# Altium schematic symbol library Schlib1.SchLib: 23 symbols
Pins are listed as number, name and electrical type; pins without a type are passive.

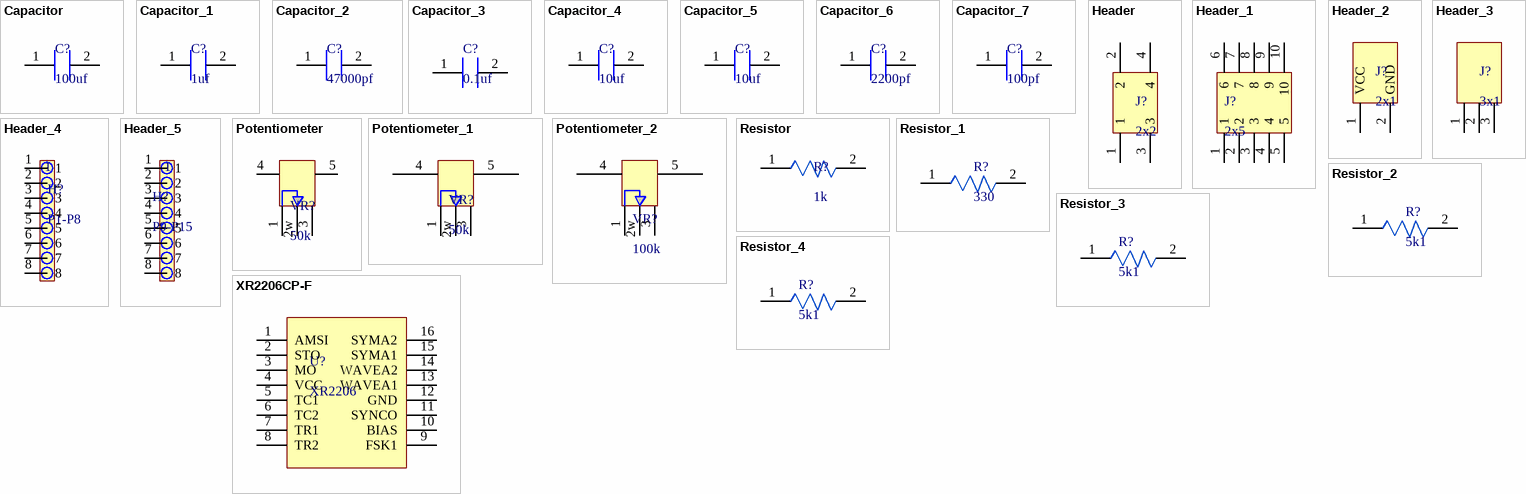
[diagram p0: symbols Capacitor to XR2206CP-F]

## Capacitor
designator C?, comment 100uf
Manufacturer: United Chemi-Con; Manufacturer Part Number: KTD101B107M99A0B00; Value: 100µF; Dielectric Material: Ceramic; Lead/Base Style: Straight; Tolerance: 20%; Voltage Rating: 100V; Supplier: DigiKey; Supplier Part Number: 565-KTD101B107M99A0B00-ND; RoHS: Compliant; Category: Ceramic Capacitors; Stock: 1030; Pricing: 1=30.55, 10=24.126, 50=22.6442, 100=21.9445 (USD); Case/Package: Radial; China RoHS: Compliant; Contact Plating: Tin; Height: 20mm; Height - Seated (Max): 20.0152mm; Lead Pitch: 24.9936mm; Length: 28.5mm; Lifecycle Status: Production; Max Operating Temperature: 125°C; Min Operating Temperature: -55°C; Mounting Technology: Through Hole; Number of Terminals: 2; REACH SVHC: Yes; Terminal Pitch: 25mm; Voltage Rating (DC): 100V; Width: 9mm; ComponentLink1URL: https://datasheet.octopart.com:443/KTD101B107M99A0B00-Nippon-Chemicon-datasheet-182100469.pdf?src-supplier=IHS; ComponentLink1Description: https://datasheet.octopart.com:443/KTD101B107M99A0B00-Nippon-Chemicon-datasheet-182100469.pdf?src-supplier=IHS; ComponentLink2URL: https://datasheet.octopart.com:443/KTD101B107M99A0B00-United-Chemi-Con-datasheet-154730662.pdf?src-supplier=Electro+Sonic; ComponentLink2Description: https://datasheet.octopart.com:443/KTD101B107M99A0B00-United-Chemi-Con-datasheet-154730662.pdf?src-supplier=Electro+Sonic
footprint PCBComponent_1
pins: 1, 2

## Capacitor_1
designator C?, comment 1uf
Manufacturer: United Chemi-Con; Manufacturer Part Number: KTD101B107M99A0B00; Value: 100µF; Dielectric Material: Ceramic; Lead/Base Style: Straight; Tolerance: 20%; Voltage Rating: 100V; Supplier: DigiKey; Supplier Part Number: 565-KTD101B107M99A0B00-ND; RoHS: Compliant; Category: Ceramic Capacitors; Stock: 1030; Pricing: 1=30.55, 10=24.126, 50=22.6442, 100=21.9445 (USD); Case/Package: Radial; China RoHS: Compliant; Contact Plating: Tin; Height: 20mm; Height - Seated (Max): 20.0152mm; Lead Pitch: 24.9936mm; Length: 28.5mm; Lifecycle Status: Production; Max Operating Temperature: 125°C; Min Operating Temperature: -55°C; Mounting Technology: Through Hole; Number of Terminals: 2; REACH SVHC: Yes; Terminal Pitch: 25mm; Voltage Rating (DC): 100V; Width: 9mm; ComponentLink1URL: https://datasheet.octopart.com:443/KTD101B107M99A0B00-Nippon-Chemicon-datasheet-182100469.pdf?src-supplier=IHS; ComponentLink1Description: https://datasheet.octopart.com:443/KTD101B107M99A0B00-Nippon-Chemicon-datasheet-182100469.pdf?src-supplier=IHS; ComponentLink2URL: https://datasheet.octopart.com:443/KTD101B107M99A0B00-United-Chemi-Con-datasheet-154730662.pdf?src-supplier=Electro+Sonic; ComponentLink2Description: https://datasheet.octopart.com:443/KTD101B107M99A0B00-United-Chemi-Con-datasheet-154730662.pdf?src-supplier=Electro+Sonic
footprint PCBComponent_1
pins: 1, 2

## Capacitor_2
designator C?, comment 47000pf
Manufacturer: United Chemi-Con; Manufacturer Part Number: KTD101B107M99A0B00; Value: 100µF; Dielectric Material: Ceramic; Lead/Base Style: Straight; Tolerance: 20%; Voltage Rating: 100V; Supplier: DigiKey; Supplier Part Number: 565-KTD101B107M99A0B00-ND; RoHS: Compliant; Category: Ceramic Capacitors; Stock: 1030; Pricing: 1=30.55, 10=24.126, 50=22.6442, 100=21.9445 (USD); Case/Package: Radial; China RoHS: Compliant; Contact Plating: Tin; Height: 20mm; Height - Seated (Max): 20.0152mm; Lead Pitch: 24.9936mm; Length: 28.5mm; Lifecycle Status: Production; Max Operating Temperature: 125°C; Min Operating Temperature: -55°C; Mounting Technology: Through Hole; Number of Terminals: 2; REACH SVHC: Yes; Terminal Pitch: 25mm; Voltage Rating (DC): 100V; Width: 9mm; ComponentLink1URL: https://datasheet.octopart.com:443/KTD101B107M99A0B00-Nippon-Chemicon-datasheet-182100469.pdf?src-supplier=IHS; ComponentLink1Description: https://datasheet.octopart.com:443/KTD101B107M99A0B00-Nippon-Chemicon-datasheet-182100469.pdf?src-supplier=IHS; ComponentLink2URL: https://datasheet.octopart.com:443/KTD101B107M99A0B00-United-Chemi-Con-datasheet-154730662.pdf?src-supplier=Electro+Sonic; ComponentLink2Description: https://datasheet.octopart.com:443/KTD101B107M99A0B00-United-Chemi-Con-datasheet-154730662.pdf?src-supplier=Electro+Sonic
footprint PCBComponent_1
pins: 1, 2

## Capacitor_3
designator C?, comment 0.1uf
Manufacturer: United Chemi-Con; Manufacturer Part Number: KTD101B107M99A0B00; Value: 100µF; Dielectric Material: Ceramic; Lead/Base Style: Straight; Tolerance: 20%; Voltage Rating: 100V; Supplier: DigiKey; Supplier Part Number: 565-KTD101B107M99A0B00-ND; RoHS: Compliant; Category: Ceramic Capacitors; Stock: 1030; Pricing: 1=30.55, 10=24.126, 50=22.6442, 100=21.9445 (USD); Case/Package: Radial; China RoHS: Compliant; Contact Plating: Tin; Height: 20mm; Height - Seated (Max): 20.0152mm; Lead Pitch: 24.9936mm; Length: 28.5mm; Lifecycle Status: Production; Max Operating Temperature: 125°C; Min Operating Temperature: -55°C; Mounting Technology: Through Hole; Number of Terminals: 2; REACH SVHC: Yes; Terminal Pitch: 25mm; Voltage Rating (DC): 100V; Width: 9mm; ComponentLink1URL: https://datasheet.octopart.com:443/KTD101B107M99A0B00-Nippon-Chemicon-datasheet-182100469.pdf?src-supplier=IHS; ComponentLink1Description: https://datasheet.octopart.com:443/KTD101B107M99A0B00-Nippon-Chemicon-datasheet-182100469.pdf?src-supplier=IHS; ComponentLink2URL: https://datasheet.octopart.com:443/KTD101B107M99A0B00-United-Chemi-Con-datasheet-154730662.pdf?src-supplier=Electro+Sonic; ComponentLink2Description: https://datasheet.octopart.com:443/KTD101B107M99A0B00-United-Chemi-Con-datasheet-154730662.pdf?src-supplier=Electro+Sonic
footprint PCBComponent_1
pins: 1, 2

## Capacitor_4
designator C?, comment 10uf
Manufacturer: United Chemi-Con; Manufacturer Part Number: KTD101B107M99A0B00; Value: 100µF; Dielectric Material: Ceramic; Lead/Base Style: Straight; Tolerance: 20%; Voltage Rating: 100V; Supplier: DigiKey; Supplier Part Number: 565-KTD101B107M99A0B00-ND; RoHS: Compliant; Category: Ceramic Capacitors; Stock: 1030; Pricing: 1=30.55, 10=24.126, 50=22.6442, 100=21.9445 (USD); Case/Package: Radial; China RoHS: Compliant; Contact Plating: Tin; Height: 20mm; Height - Seated (Max): 20.0152mm; Lead Pitch: 24.9936mm; Length: 28.5mm; Lifecycle Status: Production; Max Operating Temperature: 125°C; Min Operating Temperature: -55°C; Mounting Technology: Through Hole; Number of Terminals: 2; REACH SVHC: Yes; Terminal Pitch: 25mm; Voltage Rating (DC): 100V; Width: 9mm; ComponentLink1URL: https://datasheet.octopart.com:443/KTD101B107M99A0B00-Nippon-Chemicon-datasheet-182100469.pdf?src-supplier=IHS; ComponentLink1Description: https://datasheet.octopart.com:443/KTD101B107M99A0B00-Nippon-Chemicon-datasheet-182100469.pdf?src-supplier=IHS; ComponentLink2URL: https://datasheet.octopart.com:443/KTD101B107M99A0B00-United-Chemi-Con-datasheet-154730662.pdf?src-supplier=Electro+Sonic; ComponentLink2Description: https://datasheet.octopart.com:443/KTD101B107M99A0B00-United-Chemi-Con-datasheet-154730662.pdf?src-supplier=Electro+Sonic
footprint PCBComponent_1
pins: 1, 2

## Capacitor_5
designator C?, comment 10uf
Manufacturer: United Chemi-Con; Manufacturer Part Number: KTD101B107M99A0B00; Value: 100µF; Dielectric Material: Ceramic; Lead/Base Style: Straight; Tolerance: 20%; Voltage Rating: 100V; Supplier: DigiKey; Supplier Part Number: 565-KTD101B107M99A0B00-ND; RoHS: Compliant; Category: Ceramic Capacitors; Stock: 1030; Pricing: 1=30.55, 10=24.126, 50=22.6442, 100=21.9445 (USD); Case/Package: Radial; China RoHS: Compliant; Contact Plating: Tin; Height: 20mm; Height - Seated (Max): 20.0152mm; Lead Pitch: 24.9936mm; Length: 28.5mm; Lifecycle Status: Production; Max Operating Temperature: 125°C; Min Operating Temperature: -55°C; Mounting Technology: Through Hole; Number of Terminals: 2; REACH SVHC: Yes; Terminal Pitch: 25mm; Voltage Rating (DC): 100V; Width: 9mm; ComponentLink1URL: https://datasheet.octopart.com:443/KTD101B107M99A0B00-Nippon-Chemicon-datasheet-182100469.pdf?src-supplier=IHS; ComponentLink1Description: https://datasheet.octopart.com:443/KTD101B107M99A0B00-Nippon-Chemicon-datasheet-182100469.pdf?src-supplier=IHS; ComponentLink2URL: https://datasheet.octopart.com:443/KTD101B107M99A0B00-United-Chemi-Con-datasheet-154730662.pdf?src-supplier=Electro+Sonic; ComponentLink2Description: https://datasheet.octopart.com:443/KTD101B107M99A0B00-United-Chemi-Con-datasheet-154730662.pdf?src-supplier=Electro+Sonic
footprint PCBComponent_1
pins: 1, 2

## Capacitor_6
designator C?, comment 2200pf
Manufacturer: United Chemi-Con; Manufacturer Part Number: KTD101B107M99A0B00; Value: 100µF; Dielectric Material: Ceramic; Lead/Base Style: Straight; Tolerance: 20%; Voltage Rating: 100V; Supplier: DigiKey; Supplier Part Number: 565-KTD101B107M99A0B00-ND; RoHS: Compliant; Category: Ceramic Capacitors; Stock: 1030; Pricing: 1=30.55, 10=24.126, 50=22.6442, 100=21.9445 (USD); Case/Package: Radial; China RoHS: Compliant; Contact Plating: Tin; Height: 20mm; Height - Seated (Max): 20.0152mm; Lead Pitch: 24.9936mm; Length: 28.5mm; Lifecycle Status: Production; Max Operating Temperature: 125°C; Min Operating Temperature: -55°C; Mounting Technology: Through Hole; Number of Terminals: 2; REACH SVHC: Yes; Terminal Pitch: 25mm; Voltage Rating (DC): 100V; Width: 9mm; ComponentLink1URL: https://datasheet.octopart.com:443/KTD101B107M99A0B00-Nippon-Chemicon-datasheet-182100469.pdf?src-supplier=IHS; ComponentLink1Description: https://datasheet.octopart.com:443/KTD101B107M99A0B00-Nippon-Chemicon-datasheet-182100469.pdf?src-supplier=IHS; ComponentLink2URL: https://datasheet.octopart.com:443/KTD101B107M99A0B00-United-Chemi-Con-datasheet-154730662.pdf?src-supplier=Electro+Sonic; ComponentLink2Description: https://datasheet.octopart.com:443/KTD101B107M99A0B00-United-Chemi-Con-datasheet-154730662.pdf?src-supplier=Electro+Sonic
footprint PCBComponent_1
pins: 1, 2

## Capacitor_7
designator C?, comment 100pf
Manufacturer: United Chemi-Con; Manufacturer Part Number: KTD101B107M99A0B00; Value: 100µF; Dielectric Material: Ceramic; Lead/Base Style: Straight; Tolerance: 20%; Voltage Rating: 100V; Supplier: DigiKey; Supplier Part Number: 565-KTD101B107M99A0B00-ND; RoHS: Compliant; Category: Ceramic Capacitors; Stock: 1030; Pricing: 1=30.55, 10=24.126, 50=22.6442, 100=21.9445 (USD); Case/Package: Radial; China RoHS: Compliant; Contact Plating: Tin; Height: 20mm; Height - Seated (Max): 20.0152mm; Lead Pitch: 24.9936mm; Length: 28.5mm; Lifecycle Status: Production; Max Operating Temperature: 125°C; Min Operating Temperature: -55°C; Mounting Technology: Through Hole; Number of Terminals: 2; REACH SVHC: Yes; Terminal Pitch: 25mm; Voltage Rating (DC): 100V; Width: 9mm; ComponentLink1URL: https://datasheet.octopart.com:443/KTD101B107M99A0B00-Nippon-Chemicon-datasheet-182100469.pdf?src-supplier=IHS; ComponentLink1Description: https://datasheet.octopart.com:443/KTD101B107M99A0B00-Nippon-Chemicon-datasheet-182100469.pdf?src-supplier=IHS; ComponentLink2URL: https://datasheet.octopart.com:443/KTD101B107M99A0B00-United-Chemi-Con-datasheet-154730662.pdf?src-supplier=Electro+Sonic; ComponentLink2Description: https://datasheet.octopart.com:443/KTD101B107M99A0B00-United-Chemi-Con-datasheet-154730662.pdf?src-supplier=Electro+Sonic
footprint PCBComponent_1
pins: 1, 2

## Header
designator J?, comment 2x2
Manufacturer: Sullins; Manufacturer Part Number: PPPC022LFBN-RC; Connector Type: Header, Socket; Current Rating: 3A; Dielectric Material: Polyester; Number of Positions: 4; Pitch: 2.54mm; Supplier: DigiKey; Supplier Part Number: S7105-ND; RoHS: Compliant; Category: Card Edge Connectors; Stock: 8090; Pricing: 1=0.46, 10=0.394, 100=0.3349, 500=0.29888, 1000=0.28461, 5000=0.25405, 10000=0.24193 (USD); Color: Black; Contact Gender: Female; Contact Material: Bronze; Contact Plating: Gold; Height: 8.5mm; Housing Material: Plastic; Lead Free: Lead Free; Length: 5.58mm; Lifecycle Status: Production; Mounting Technology: Through Hole; Pins: 4; Number of Rows: 2; Packaging: Bulk; REACH SVHC: Yes; Row Spacing: 2.54mm; Terminal Pitch: 2.54mm; Termination: Solder; Width: 5mm; ComponentLink1URL: https://datasheet.octopart.com:443/PPPC022LFBN-RC-Sullins-datasheet-138810743.pdf?src-supplier=IHS; ComponentLink1Description: https://datasheet.octopart.com:443/PPPC022LFBN-RC-Sullins-datasheet-138810743.pdf?src-supplier=IHS; ComponentLink2URL: https://datasheet.octopart.com:443/PPPC022LFBN-RC-Sullins-datasheet-41308905.pdf?src-supplier=Future+Electronics; ComponentLink2Description: https://datasheet.octopart.com:443/PPPC022LFBN-RC-Sullins-datasheet-41308905.pdf?src-supplier=Future+Electronics; ComponentLink3URL: https://datasheet.octopart.com:443/PPPC022LFBN-RC-Sullins-datasheet-12511165.pdf?src-supplier=Future+Electronics; ComponentLink3Description: https://datasheet.octopart.com:443/PPPC022LFBN-RC-Sullins-datasheet-12511165.pdf?src-supplier=Future+Electronics; ComponentLink4URL: https://datasheet.octopart.com:443/PPPC022LFBN-RC-Sullins-datasheet-12463.pdf?src-supplier=DigiKey; ComponentLink4Description: https://datasheet.octopart.com:443/PPPC022LFBN-RC-Sullins-datasheet-12463.pdf?src-supplier=DigiKey
footprint PCBComponent_1 - duplicate6
pins: 1, 2, 3, 4

## Header_1
designator J?, comment 2x5
Manufacturer: Sullins; Manufacturer Part Number: PPPC022LFBN-RC; Connector Type: Header, Socket; Current Rating: 3A; Dielectric Material: Polyester; Number of Positions: 4; Pitch: 2.54mm; Supplier: DigiKey; Supplier Part Number: S7105-ND; RoHS: Compliant; Category: Card Edge Connectors; Stock: 8090; Pricing: 1=0.46, 10=0.394, 100=0.3349, 500=0.29888, 1000=0.28461, 5000=0.25405, 10000=0.24193 (USD); Color: Black; Contact Gender: Female; Contact Material: Bronze; Contact Plating: Gold; Height: 8.5mm; Housing Material: Plastic; Lead Free: Lead Free; Length: 5.58mm; Lifecycle Status: Production; Mounting Technology: Through Hole; Pins: 4; Number of Rows: 2; Packaging: Bulk; REACH SVHC: Yes; Row Spacing: 2.54mm; Terminal Pitch: 2.54mm; Termination: Solder; Width: 5mm; ComponentLink1URL: https://datasheet.octopart.com:443/PPPC022LFBN-RC-Sullins-datasheet-138810743.pdf?src-supplier=IHS; ComponentLink1Description: https://datasheet.octopart.com:443/PPPC022LFBN-RC-Sullins-datasheet-138810743.pdf?src-supplier=IHS; ComponentLink2URL: https://datasheet.octopart.com:443/PPPC022LFBN-RC-Sullins-datasheet-41308905.pdf?src-supplier=Future+Electronics; ComponentLink2Description: https://datasheet.octopart.com:443/PPPC022LFBN-RC-Sullins-datasheet-41308905.pdf?src-supplier=Future+Electronics; ComponentLink3URL: https://datasheet.octopart.com:443/PPPC022LFBN-RC-Sullins-datasheet-12511165.pdf?src-supplier=Future+Electronics; ComponentLink3Description: https://datasheet.octopart.com:443/PPPC022LFBN-RC-Sullins-datasheet-12511165.pdf?src-supplier=Future+Electronics; ComponentLink4URL: https://datasheet.octopart.com:443/PPPC022LFBN-RC-Sullins-datasheet-12463.pdf?src-supplier=DigiKey; ComponentLink4Description: https://datasheet.octopart.com:443/PPPC022LFBN-RC-Sullins-datasheet-12463.pdf?src-supplier=DigiKey
footprint PCBComponent_1 - duplicate5
pins: 1, 2, 3, 4, 5, 6, 7, 8, 9, 10

## Header_2
designator J?, comment 2x1
Manufacturer: Sullins; Manufacturer Part Number: PPPC022LFBN-RC; Connector Type: Header, Socket; Current Rating: 3A; Dielectric Material: Polyester; Number of Positions: 4; Pitch: 2.54mm; Supplier: DigiKey; Supplier Part Number: S7105-ND; RoHS: Compliant; Category: Card Edge Connectors; Stock: 8090; Pricing: 1=0.46, 10=0.394, 100=0.3349, 500=0.29888, 1000=0.28461, 5000=0.25405, 10000=0.24193 (USD); Color: Black; Contact Gender: Female; Contact Material: Bronze; Contact Plating: Gold; Height: 8.5mm; Housing Material: Plastic; Lead Free: Lead Free; Length: 5.58mm; Lifecycle Status: Production; Mounting Technology: Through Hole; Pins: 4; Number of Rows: 2; Packaging: Bulk; REACH SVHC: Yes; Row Spacing: 2.54mm; Terminal Pitch: 2.54mm; Termination: Solder; Width: 5mm; ComponentLink1URL: https://datasheet.octopart.com:443/PPPC022LFBN-RC-Sullins-datasheet-138810743.pdf?src-supplier=IHS; ComponentLink1Description: https://datasheet.octopart.com:443/PPPC022LFBN-RC-Sullins-datasheet-138810743.pdf?src-supplier=IHS; ComponentLink2URL: https://datasheet.octopart.com:443/PPPC022LFBN-RC-Sullins-datasheet-41308905.pdf?src-supplier=Future+Electronics; ComponentLink2Description: https://datasheet.octopart.com:443/PPPC022LFBN-RC-Sullins-datasheet-41308905.pdf?src-supplier=Future+Electronics; ComponentLink3URL: https://datasheet.octopart.com:443/PPPC022LFBN-RC-Sullins-datasheet-12511165.pdf?src-supplier=Future+Electronics; ComponentLink3Description: https://datasheet.octopart.com:443/PPPC022LFBN-RC-Sullins-datasheet-12511165.pdf?src-supplier=Future+Electronics; ComponentLink4URL: https://datasheet.octopart.com:443/PPPC022LFBN-RC-Sullins-datasheet-12463.pdf?src-supplier=DigiKey; ComponentLink4Description: https://datasheet.octopart.com:443/PPPC022LFBN-RC-Sullins-datasheet-12463.pdf?src-supplier=DigiKey
footprint PCBComponent_1 - duplicate4
pins: 1 VCC (power), 2 GND (power)

## Header_3
designator J?, comment 3x1
Manufacturer: Sullins; Manufacturer Part Number: PPPC022LFBN-RC; Connector Type: Header, Socket; Current Rating: 3A; Dielectric Material: Polyester; Number of Positions: 4; Pitch: 2.54mm; Supplier: DigiKey; Supplier Part Number: S7105-ND; RoHS: Compliant; Category: Card Edge Connectors; Stock: 8090; Pricing: 1=0.46, 10=0.394, 100=0.3349, 500=0.29888, 1000=0.28461, 5000=0.25405, 10000=0.24193 (USD); Color: Black; Contact Gender: Female; Contact Material: Bronze; Contact Plating: Gold; Height: 8.5mm; Housing Material: Plastic; Lead Free: Lead Free; Length: 5.58mm; Lifecycle Status: Production; Mounting Technology: Through Hole; Pins: 4; Number of Rows: 2; Packaging: Bulk; REACH SVHC: Yes; Row Spacing: 2.54mm; Terminal Pitch: 2.54mm; Termination: Solder; Width: 5mm; ComponentLink1URL: https://datasheet.octopart.com:443/PPPC022LFBN-RC-Sullins-datasheet-138810743.pdf?src-supplier=IHS; ComponentLink1Description: https://datasheet.octopart.com:443/PPPC022LFBN-RC-Sullins-datasheet-138810743.pdf?src-supplier=IHS; ComponentLink2URL: https://datasheet.octopart.com:443/PPPC022LFBN-RC-Sullins-datasheet-41308905.pdf?src-supplier=Future+Electronics; ComponentLink2Description: https://datasheet.octopart.com:443/PPPC022LFBN-RC-Sullins-datasheet-41308905.pdf?src-supplier=Future+Electronics; ComponentLink3URL: https://datasheet.octopart.com:443/PPPC022LFBN-RC-Sullins-datasheet-12511165.pdf?src-supplier=Future+Electronics; ComponentLink3Description: https://datasheet.octopart.com:443/PPPC022LFBN-RC-Sullins-datasheet-12511165.pdf?src-supplier=Future+Electronics; ComponentLink4URL: https://datasheet.octopart.com:443/PPPC022LFBN-RC-Sullins-datasheet-12463.pdf?src-supplier=DigiKey; ComponentLink4Description: https://datasheet.octopart.com:443/PPPC022LFBN-RC-Sullins-datasheet-12463.pdf?src-supplier=DigiKey
footprint PCBComponent_1 - duplicate7
pins: 1 SIN/TRI, 2 SQU, 3 GND

## Header_4
designator H?, comment P1-P8
Manufacturer: Sullins; Manufacturer Part Number: PPTC081LFBN-RC; Connector Type: Header, Socket; Current Rating: 3A; Dielectric Material: Polyester; Number of Positions: 8; Pitch: 2.54mm; Plating Thickness: 2.54µm; Supplier: DigiKey; Supplier Part Number: S7006-ND; RoHS: Compliant; Category: Card Edge Connectors; Stock: 36900; Pricing: 1=0.51, 10=0.435, 400=0.33535, 800=0.31933, 1200=0.31031, 5200=0.2798, 10000=0.26719 (USD); Color: Black; Contact Gender: Female; Contact Material: Bronze; Contact Plating: Tin; Height: 8.5mm; Housing Material: Plastic; Lead Free: Lead Free; Length: 20.8mm; Lifecycle Status: Production; Max Operating Temperature: 105°C; Min Operating Temperature: -40°C; Mounting Technology: Through Hole; Pins: 8; Number of Rows: 1; Packaging: Bulk; REACH SVHC: Yes; Terminal Pitch: 2.54mm; Termination: Solder; Width: 2.5mm; ComponentLink1URL: https://datasheet.octopart.com:443/PPTC081LFBN-RC-Sullins-datasheet-138810743.pdf?src-supplier=IHS; ComponentLink1Description: https://datasheet.octopart.com:443/PPTC081LFBN-RC-Sullins-datasheet-138810743.pdf?src-supplier=IHS; ComponentLink2URL: https://datasheet.octopart.com:443/PPTC081LFBN-RC-Sullins-datasheet-47864048.pdf?src-supplier=Upverter; ComponentLink2Description: https://datasheet.octopart.com:443/PPTC081LFBN-RC-Sullins-datasheet-47864048.pdf?src-supplier=Upverter; ComponentLink3URL: https://datasheet.octopart.com:443/PPTC081LFBN-RC-Sullins-datasheet-41308905.pdf?src-supplier=Future+Electronics; ComponentLink3Description: https://datasheet.octopart.com:443/PPTC081LFBN-RC-Sullins-datasheet-41308905.pdf?src-supplier=Future+Electronics; ComponentLink4URL: https://datasheet.octopart.com:443/PPTC081LFBN-RC-Sullins-datasheet-12511165.pdf?src-supplier=Future+Electronics; ComponentLink4Description: https://datasheet.octopart.com:443/PPTC081LFBN-RC-Sullins-datasheet-12511165.pdf?src-supplier=Future+Electronics
footprint PCBComponent_1 - duplicate1
pins: 1, 2, 3, 4, 5, 6, 7, 8

## Header_5
designator H?, comment P9-P15
Manufacturer: Sullins; Manufacturer Part Number: PPPC022LFBN-RC; Connector Type: Header, Socket; Current Rating: 3A; Dielectric Material: Polyester; Number of Positions: 4; Pitch: 2.54mm; Supplier: DigiKey; Supplier Part Number: S7105-ND; RoHS: Compliant; Category: Card Edge Connectors; Stock: 8090; Pricing: 1=0.46, 10=0.394, 100=0.3349, 500=0.29888, 1000=0.28461, 5000=0.25405, 10000=0.24193 (USD); Color: Black; Contact Gender: Female; Contact Material: Bronze; Contact Plating: Gold; Height: 8.5mm; Housing Material: Plastic; Lead Free: Lead Free; Length: 5.58mm; Lifecycle Status: Production; Mounting Technology: Through Hole; Pins: 4; Number of Rows: 2; Packaging: Bulk; REACH SVHC: Yes; Row Spacing: 2.54mm; Terminal Pitch: 2.54mm; Termination: Solder; Width: 5mm; ComponentLink1URL: https://datasheet.octopart.com:443/PPPC022LFBN-RC-Sullins-datasheet-138810743.pdf?src-supplier=IHS; ComponentLink1Description: https://datasheet.octopart.com:443/PPPC022LFBN-RC-Sullins-datasheet-138810743.pdf?src-supplier=IHS; ComponentLink2URL: https://datasheet.octopart.com:443/PPPC022LFBN-RC-Sullins-datasheet-41308905.pdf?src-supplier=Future+Electronics; ComponentLink2Description: https://datasheet.octopart.com:443/PPPC022LFBN-RC-Sullins-datasheet-41308905.pdf?src-supplier=Future+Electronics; ComponentLink3URL: https://datasheet.octopart.com:443/PPPC022LFBN-RC-Sullins-datasheet-12511165.pdf?src-supplier=Future+Electronics; ComponentLink3Description: https://datasheet.octopart.com:443/PPPC022LFBN-RC-Sullins-datasheet-12511165.pdf?src-supplier=Future+Electronics; ComponentLink4URL: https://datasheet.octopart.com:443/PPPC022LFBN-RC-Sullins-datasheet-12463.pdf?src-supplier=DigiKey; ComponentLink4Description: https://datasheet.octopart.com:443/PPPC022LFBN-RC-Sullins-datasheet-12463.pdf?src-supplier=DigiKey
footprint PCBComponent_1 - duplicate1
pins: 1, 2, 3, 4, 5, 6, 7, 8

## Potentiometer
designator VR?, comment 50k
Manufacturer: Bourns; Manufacturer Part Number: PV36W503C01B00; Lead Diameter: 510µm; Lead Length: 6.4mm; Max Power Dissipation: 500mW; Number of Turns: 25; Value: 50kΩ; Temperature Coefficient: 100ppm/°C; Tolerance: 10%; Supplier: DigiKey; Supplier Part Number: 118-PV36W503C01B00-ND; RoHS: Compliant; Category: Variable Resistors and Potentiometers; Stock: 4549; Pricing: 1=1.53, 10=1.291, 25=1.2048, 50=1.1432, 100=1.0844, 300=0.99703, 500=0.95864, 1000=0.90877, 5000=0.80229 (USD); Composition: Cermet; Contact Plating: Tin; Height: 10.03mm; Lifecycle Status: Production; Max Operating Temperature: 125°C; Min Operating Temperature: -55°C; Mounting Technology: Through Hole; Number of Terminals: 3; Power Dissipation: 500mW; REACH SVHC: No; Schedule B: 8533400080, 8533400080|8533400080|8533400080|8533400080|8533400080; Termination: PC Pins; Width: 4.83mm; ComponentLink1URL: https://datasheet.octopart.com:443/PV36W503C01B00-Bourns-datasheet-182141976.pdf?src-supplier=JRH+Electronics; ComponentLink1Description: https://datasheet.octopart.com:443/PV36W503C01B00-Bourns-datasheet-182141976.pdf?src-supplier=JRH+Electronics; ComponentLink2URL: https://datasheet.octopart.com:443/PV36W503C01B00-Bourns-datasheet-154729827.pdf?src-supplier=Electro+Sonic; ComponentLink2Description: https://datasheet.octopart.com:443/PV36W503C01B00-Bourns-datasheet-154729827.pdf?src-supplier=Electro+Sonic; ComponentLink3URL: https://datasheet.octopart.com:443/PV36W503C01B00-Bourns-datasheet-177040424.pdf?src-supplier=Burklin+Elektronik; ComponentLink3Description: https://datasheet.octopart.com:443/PV36W503C01B00-Bourns-datasheet-177040424.pdf?src-supplier=Burklin+Elektronik; ComponentLink4URL: https://datasheet.octopart.com:443/PV36W503C01B00-Bourns-datasheet-165058412.pdf?src-supplier=Burklin+Elektronik; ComponentLink4Description: https://datasheet.octopart.com:443/PV36W503C01B00-Bourns-datasheet-165058412.pdf?src-supplier=Burklin+Elektronik; ComponentLink5URL: https://datasheet.octopart.com:443/PV36W503C01B00-Bourns-datasheet-103142593.pdf?src-supplier=TME; ComponentLink5Description: https://datasheet.octopart.com:443/PV36W503C01B00-Bourns-datasheet-103142593.pdf?src-supplier=TME; ComponentLink6URL: http://sigma.octopart.com:80/conflict_mineral_statement/Bourns-company-36.pdf?src-supplier=Compliance+Statements; ComponentLink6Description: http://sigma.octopart.com:80/conflict_mineral_statement/Bourns-company-36.pdf?src-supplier=Compliance+Statements
footprint PCBComponent_1 - duplicate3
pins: 1, 2w WPR, 3 12, 4 WPR, 5 WPR

## Potentiometer_1
designator VR?, comment 50k
Manufacturer: Bourns; Manufacturer Part Number: PV36W503C01B00; Lead Diameter: 510µm; Lead Length: 6.4mm; Max Power Dissipation: 500mW; Number of Turns: 25; Value: 50kΩ; Temperature Coefficient: 100ppm/°C; Tolerance: 10%; Supplier: DigiKey; Supplier Part Number: 118-PV36W503C01B00-ND; RoHS: Compliant; Category: Variable Resistors and Potentiometers; Stock: 4549; Pricing: 1=1.53, 10=1.291, 25=1.2048, 50=1.1432, 100=1.0844, 300=0.99703, 500=0.95864, 1000=0.90877, 5000=0.80229 (USD); Composition: Cermet; Contact Plating: Tin; Height: 10.03mm; Lifecycle Status: Production; Max Operating Temperature: 125°C; Min Operating Temperature: -55°C; Mounting Technology: Through Hole; Number of Terminals: 3; Power Dissipation: 500mW; REACH SVHC: No; Schedule B: 8533400080, 8533400080|8533400080|8533400080|8533400080|8533400080; Termination: PC Pins; Width: 4.83mm; ComponentLink1URL: https://datasheet.octopart.com:443/PV36W503C01B00-Bourns-datasheet-182141976.pdf?src-supplier=JRH+Electronics; ComponentLink1Description: https://datasheet.octopart.com:443/PV36W503C01B00-Bourns-datasheet-182141976.pdf?src-supplier=JRH+Electronics; ComponentLink2URL: https://datasheet.octopart.com:443/PV36W503C01B00-Bourns-datasheet-154729827.pdf?src-supplier=Electro+Sonic; ComponentLink2Description: https://datasheet.octopart.com:443/PV36W503C01B00-Bourns-datasheet-154729827.pdf?src-supplier=Electro+Sonic; ComponentLink3URL: https://datasheet.octopart.com:443/PV36W503C01B00-Bourns-datasheet-177040424.pdf?src-supplier=Burklin+Elektronik; ComponentLink3Description: https://datasheet.octopart.com:443/PV36W503C01B00-Bourns-datasheet-177040424.pdf?src-supplier=Burklin+Elektronik; ComponentLink4URL: https://datasheet.octopart.com:443/PV36W503C01B00-Bourns-datasheet-165058412.pdf?src-supplier=Burklin+Elektronik; ComponentLink4Description: https://datasheet.octopart.com:443/PV36W503C01B00-Bourns-datasheet-165058412.pdf?src-supplier=Burklin+Elektronik; ComponentLink5URL: https://datasheet.octopart.com:443/PV36W503C01B00-Bourns-datasheet-103142593.pdf?src-supplier=TME; ComponentLink5Description: https://datasheet.octopart.com:443/PV36W503C01B00-Bourns-datasheet-103142593.pdf?src-supplier=TME; ComponentLink6URL: http://sigma.octopart.com:80/conflict_mineral_statement/Bourns-company-36.pdf?src-supplier=Compliance+Statements; ComponentLink6Description: http://sigma.octopart.com:80/conflict_mineral_statement/Bourns-company-36.pdf?src-supplier=Compliance+Statements
footprint PCBComponent_1 - duplicate3
pins: 1, 2w WPR, 3 12, 4 WPR, 5 WPR

## Potentiometer_2
designator VR?, comment 100k
Manufacturer: Bourns; Manufacturer Part Number: PV36W503C01B00; Lead Diameter: 510µm; Lead Length: 6.4mm; Max Power Dissipation: 500mW; Number of Turns: 25; Value: 50kΩ; Temperature Coefficient: 100ppm/°C; Tolerance: 10%; Supplier: DigiKey; Supplier Part Number: 118-PV36W503C01B00-ND; RoHS: Compliant; Category: Variable Resistors and Potentiometers; Stock: 4549; Pricing: 1=1.53, 10=1.291, 25=1.2048, 50=1.1432, 100=1.0844, 300=0.99703, 500=0.95864, 1000=0.90877, 5000=0.80229 (USD); Composition: Cermet; Contact Plating: Tin; Height: 10.03mm; Lifecycle Status: Production; Max Operating Temperature: 125°C; Min Operating Temperature: -55°C; Mounting Technology: Through Hole; Number of Terminals: 3; Power Dissipation: 500mW; REACH SVHC: No; Schedule B: 8533400080, 8533400080|8533400080|8533400080|8533400080|8533400080; Termination: PC Pins; Width: 4.83mm; ComponentLink1URL: https://datasheet.octopart.com:443/PV36W503C01B00-Bourns-datasheet-182141976.pdf?src-supplier=JRH+Electronics; ComponentLink1Description: https://datasheet.octopart.com:443/PV36W503C01B00-Bourns-datasheet-182141976.pdf?src-supplier=JRH+Electronics; ComponentLink2URL: https://datasheet.octopart.com:443/PV36W503C01B00-Bourns-datasheet-154729827.pdf?src-supplier=Electro+Sonic; ComponentLink2Description: https://datasheet.octopart.com:443/PV36W503C01B00-Bourns-datasheet-154729827.pdf?src-supplier=Electro+Sonic; ComponentLink3URL: https://datasheet.octopart.com:443/PV36W503C01B00-Bourns-datasheet-177040424.pdf?src-supplier=Burklin+Elektronik; ComponentLink3Description: https://datasheet.octopart.com:443/PV36W503C01B00-Bourns-datasheet-177040424.pdf?src-supplier=Burklin+Elektronik; ComponentLink4URL: https://datasheet.octopart.com:443/PV36W503C01B00-Bourns-datasheet-165058412.pdf?src-supplier=Burklin+Elektronik; ComponentLink4Description: https://datasheet.octopart.com:443/PV36W503C01B00-Bourns-datasheet-165058412.pdf?src-supplier=Burklin+Elektronik; ComponentLink5URL: https://datasheet.octopart.com:443/PV36W503C01B00-Bourns-datasheet-103142593.pdf?src-supplier=TME; ComponentLink5Description: https://datasheet.octopart.com:443/PV36W503C01B00-Bourns-datasheet-103142593.pdf?src-supplier=TME; ComponentLink6URL: http://sigma.octopart.com:80/conflict_mineral_statement/Bourns-company-36.pdf?src-supplier=Compliance+Statements; ComponentLink6Description: http://sigma.octopart.com:80/conflict_mineral_statement/Bourns-company-36.pdf?src-supplier=Compliance+Statements
footprint PCBComponent_1 - duplicate3
pins: 1, 2w WPR, 3 12, 4 WPR, 5 WPR

## Resistor
designator R?, comment 1k
Manufacturer: Yageo; Manufacturer Part Number: RC0402FR-07267KL; Tolerance: 1%; Additional Feature: LASER TRIMMABLE; Power: 62.5mW; Rated Temperature: 70°C; Value: 1kR; Working Voltage: 50V; Temperature Coefficient (ppm/Cel): 100; Package Height: 0.35mm; Package Length: 1mm; Package Width: 0.5mm; Supplier: Digikey; Supplier Part Number: YAG3079CT-ND; RoHS: Yes; Category: Chip SMD Resistors; Stock: 55854; Pricing: 1=0.1, 10=0.007, 100=0.0051, 1000=0.00306 (USD); Mounting Technology: Surface Mount; Pins: 2; Package Shape: Rectangular; Case/Package: 0402; Terminal Finish: Nickel; Min Operating Temperature: -55°C; Max Operating Temperature: 155°C; JESD-609 Code: e3; Resistor Type: FIXED RESISTOR; Construction: Chip; Packaging: Tape and Reel; Technology: METAL GLAZE/THICK FILM; Termination: Wraparound; Reach SVHC Compliant: Yes; RoHS Compliant: Yes; ComponentLink1URL: https://datasheet.ciiva.com:443/pdfs/VipMasterIC/IC/YAGO/YAGO-S-A0008145938/YAGO-S-A0008145938-1.pdf?src-supplier=IHS+Markit; ComponentLink1Description: https://datasheet.ciiva.com:443/pdfs/VipMasterIC/IC/YAGO/YAGO-S-A0008145938/YAGO-S-A0008145938-1.pdf?src-supplier=IHS+Markit; ComponentLink2URL: https://datasheet.ciiva.com/12577/pyu-rc0402-51-rohs-l-6-r-12577167.pdf?src-supplier=Mouser; ComponentLink2Description: https://datasheet.ciiva.com/12577/pyu-rc0402-51-rohs-l-6-r-12577167.pdf?src-supplier=Mouser; ComponentLink3URL: https://datasheet.ciiva.com/8886/pyu-rc0402-51-rohs-l-6-8886495.pdf?src-supplier=Avnet; ComponentLink3Description: https://datasheet.ciiva.com/8886/pyu-rc0402-51-rohs-l-6-8886495.pdf?src-supplier=Avnet
footprint PCBComponent_1 - duplicate
pins: 1, 2

## Resistor_1
designator R?, comment 330
Manufacturer: TE Connectivity; Manufacturer Part Number: CRGP2512F330R; Manufacturer Lifecycle Status: ACTIVE; Operating Supply Voltage: 500V; Power Dissipation: 2W; Value: 330Ω; Temperature Coefficient: 100ppm/°C; Tolerance: 1%; Supplier: DigiKey; Supplier Part Number: A130715CT-ND; RoHS: Compliant; Category: Chip SMD Resistors; Stock: 8171; Pricing: 1=0.5, 10=0.291, 25=0.2428, 50=0.2154, 100=0.1937, 250=0.1762, 500=0.14896 (USD); Ambient Temperature Range High: 70°C; Case/Package: 2512; China RoHS: Non-Compliant; Composition: Thick Film; Height: 550µm; Lifecycle Status: Production; Max Operating Temperature: 155°C; Min Operating Temperature: -55°C; Mounting Technology: Surface Mount; Number of Terminals: 2; Packaging: Cut Tape; Power Rating: 2W; REACH SVHC: Yes; Schedule B: 8533210025, 8533210025|8533210025, 8533210025|8533210025|8533210025, 8533210025|8533210025|8533210025|8533210025; Voltage Rating: 500V; Voltage Rating (DC): 500V; Width: 3.2mm; Working Voltage: 500V; ComponentLink1URL: https://sigma.octopart.com:443/114728873/technical_drawing/TE-Connectivity-CRGP2512F330R.pdf?src-supplier=TE+Connectivity; ComponentLink1Description: https://sigma.octopart.com:443/114728873/technical_drawing/TE-Connectivity-CRGP2512F330R.pdf?src-supplier=TE+Connectivity; ComponentLink2URL: https://datasheet.octopart.com:443/CRGP2512F330R-TE-Connectivity-datasheet-114718804.pdf?src-supplier=element14+APAC; ComponentLink2Description: https://datasheet.octopart.com:443/CRGP2512F330R-TE-Connectivity-datasheet-114718804.pdf?src-supplier=element14+APAC; ComponentLink3URL: https://datasheet.octopart.com:443/CRGP2512F330R-TE-Connectivity-datasheet-138898427.pdf?src-supplier=Upverter; ComponentLink3Description: https://datasheet.octopart.com:443/CRGP2512F330R-TE-Connectivity-datasheet-138898427.pdf?src-supplier=Upverter; ComponentLink4URL: https://datasheet.octopart.com:443/1-2176331-9-TE-Connectivity---AMP-datasheet-184935180.pdf?src-supplier=Master+Electronics; ComponentLink4Description: https://datasheet.octopart.com:443/1-2176331-9-TE-Connectivity---AMP-datasheet-184935180.pdf?src-supplier=Master+Electronics; ComponentLink5URL: https://datasheet.octopart.com:443/1-2176331-9-TE-Connectivity-datasheet-176339768.pdf?src-supplier=Sager+Electronics; ComponentLink5Description: https://datasheet.octopart.com:443/1-2176331-9-TE-Connectivity-datasheet-176339768.pdf?src-supplier=Sager+Electronics; ComponentLink6URL: https://datasheet.octopart.com:443/1-2176331-9-TE-Connectivity-datasheet-156004650.pdf?src-supplier=Future+Electronics; ComponentLink6Description: https://datasheet.octopart.com:443/1-2176331-9-TE-Connectivity-datasheet-156004650.pdf?src-supplier=Future+Electronics
footprint PCBComponent_1 - duplicate
pins: 1, 2

## Resistor_2
designator R?, comment 5k1
Manufacturer: Yageo Group; Manufacturer Part Number: RC0603FR-075K1L; Max Power Dissipation: 100mW; Value: 5.1kΩ; Temperature Coefficient: 100ppm/°C; Tolerance: 1%; Voltage Rating: 75V; Voltage Rating (DC): 50V; Supplier: DigiKey; Supplier Part Number: 311-5.10KHRCT-ND; RoHS: Compliant; Category: Chip SMD Resistors; Stock: 929248; Pricing: 1=0.1, 10=0.009, 25=0.008, 50=0.0072, 100=0.0061, 250=0.00568 (USD); Case/Package: 0603; Case Code (Imperial): 0603; China RoHS: Non-Compliant; Composition: Thick Film; Depth: 800µm; Features: Moisture Resistant; Height: 450µm; Lead Free: Lead Free; Lifecycle Status: Production; Max Operating Temperature: 155°C; Military Standard: Not; Min Operating Temperature: -55°C; Mounting Technology: Surface Mount; Pins: 2; Number of Terminals: 2; Number of Terminations: 2; Packaging: Tape & Reel; Power Dissipation: 100mW; Power Rating: 100mW; REACH SVHC: Yes; Schedule B: 8533210045, 8533210045|8533210045, 8533210045|8533210045|8533210045, 8533210045|8533210045|8533210045|8533210045; Termination: SMD/SMT; Width: 800µm; Working Voltage: 75V; ComponentLink1URL: https://datasheet.octopart.com:443/RC0603FR-075K1L-Yageo-datasheet-175887523.pdf?src-supplier=IHS; ComponentLink1Description: https://datasheet.octopart.com:443/RC0603FR-075K1L-Yageo-datasheet-175887523.pdf?src-supplier=IHS; ComponentLink2URL: https://datasheet.octopart.com:443/RC0603FR-075K1L-Yageo-datasheet-103092701.pdf?src-supplier=Upverter; ComponentLink2Description: https://datasheet.octopart.com:443/RC0603FR-075K1L-Yageo-datasheet-103092701.pdf?src-supplier=Upverter; ComponentLink3URL: https://datasheet.octopart.com:443/RC0603FR-075K1L-Yageo-datasheet-8328172.pdf?src-supplier=Farnell; ComponentLink3Description: https://datasheet.octopart.com:443/RC0603FR-075K1L-Yageo-datasheet-8328172.pdf?src-supplier=Farnell; ComponentLink4URL: https://datasheet.octopart.com:443/RC0603FR-075K1L-Yageo-datasheet-62067350.pdf?src-supplier=Farnell; ComponentLink4Description: https://datasheet.octopart.com:443/RC0603FR-075K1L-Yageo-datasheet-62067350.pdf?src-supplier=Farnell; ComponentLink5URL: https://datasheet.octopart.com:443/RC0603FR-075K1L-Yageo-datasheet-34211833.pdf?src-supplier=element14+APAC; ComponentLink5Description: https://datasheet.octopart.com:443/RC0603FR-075K1L-Yageo-datasheet-34211833.pdf?src-supplier=element14+APAC; ComponentLink6URL: https://datasheet.octopart.com:443/RC0603FR-075K1L-Yageo-datasheet-164759695.pdf?src-supplier=Future+Electronics; ComponentLink6Description: https://datasheet.octopart.com:443/RC0603FR-075K1L-Yageo-datasheet-164759695.pdf?src-supplier=Future+Electronics; ComponentLink7URL: https://datasheet.octopart.com:443/RC0603FR-075K1L-Yageo-datasheet-137700087.pdf?src-supplier=Future+Electronics; ComponentLink7Description: https://datasheet.octopart.com:443/RC0603FR-075K1L-Yageo-datasheet-137700087.pdf?src-supplier=Future+Electronics; ComponentLink8URL: https://datasheet.octopart.com:443/RC0603FR-075K1L-Yageo-datasheet-15599030.pdf?src-supplier=Future+Electronics; ComponentLink8Description: https://datasheet.octopart.com:443/RC0603FR-075K1L-Yageo-datasheet-15599030.pdf?src-supplier=Future+Electronics; ComponentLink9URL: https://datasheet.octopart.com:443/RC0603FR-075K1L-Yageo-datasheet-12596169.pdf?src-supplier=Future+Electronics; ComponentLink9Description: https://datasheet.octopart.com:443/RC0603FR-075K1L-Yageo-datasheet-12596169.pdf?src-supplier=Future+Electronics; ComponentLink10URL: https://datasheet.octopart.com:443/RC0603FR-075K1L-Yageo-datasheet-503470.pdf?src-supplier=Future+Electronics; ComponentLink10Description: https://datasheet.octopart.com:443/RC0603FR-075K1L-Yageo-datasheet-503470.pdf?src-supplier=Future+Electronics; ComponentLink11URL: https://datasheet.octopart.com:443/RC0603FR-075K1L-Yageo-datasheet-148775077.pdf?src-supplier=TME; ComponentLink11Description: https://datasheet.octopart.com:443/RC0603FR-075K1L-Yageo-datasheet-148775077.pdf?src-supplier=TME; ComponentLink12URL: https://datasheet.octopart.com:443/RC0603FR-075K1L-Yageo-datasheet-79472498.pdf?src-supplier=Megastar; ComponentLink12Description: https://datasheet.octopart.com:443/RC0603FR-075K1L-Yageo-datasheet-79472498.pdf?src-supplier=Megastar; ComponentLink13URL: https://datasheet.octopart.com/RC0603FR-075K1L-Yageo-datasheet-73766026.pdf; ComponentLink13Description: https://datasheet.octopart.com/RC0603FR-075K1L-Yageo-datasheet-73766026.pdf; ComponentLink14URL: https://datasheet.octopart.com:443/RC0603FR-075K1L-Yageo-datasheet-118562.pdf?src-supplier=DigiKey; ComponentLink14Description: https://datasheet.octopart.com:443/RC0603FR-075K1L-Yageo-datasheet-118562.pdf?src-supplier=DigiKey; ComponentLink15URL: http://sigma.octopart.com:80/rohs_statement/Yageo-company-2.pdf?src-supplier=Compliance+Statements; ComponentLink15Description: http://sigma.octopart.com:80/rohs_statement/Yageo-company-2.pdf?src-supplier=Compliance+Statements; ComponentLink16URL: http://sigma.octopart.com:80/conflict_mineral_statement/Yageo-company-3.pdf?src-supplier=Compliance+Statements; ComponentLink16Description: http://sigma.octopart.com:80/conflict_mineral_statement/Yageo-company-3.pdf?src-supplier=Compliance+Statements
footprint PCBComponent_1 - duplicate
pins: 1, 2

## Resistor_3
designator R?, comment 5k1
Manufacturer: Yageo Group; Manufacturer Part Number: RC0603FR-075K1L; Max Power Dissipation: 100mW; Value: 5.1kΩ; Temperature Coefficient: 100ppm/°C; Tolerance: 1%; Voltage Rating: 75V; Voltage Rating (DC): 50V; Supplier: DigiKey; Supplier Part Number: 311-5.10KHRCT-ND; RoHS: Compliant; Category: Chip SMD Resistors; Stock: 929248; Pricing: 1=0.1, 10=0.009, 25=0.008, 50=0.0072, 100=0.0061, 250=0.00568 (USD); Case/Package: 0603; Case Code (Imperial): 0603; China RoHS: Non-Compliant; Composition: Thick Film; Depth: 800µm; Features: Moisture Resistant; Height: 450µm; Lead Free: Lead Free; Lifecycle Status: Production; Max Operating Temperature: 155°C; Military Standard: Not; Min Operating Temperature: -55°C; Mounting Technology: Surface Mount; Pins: 2; Number of Terminals: 2; Number of Terminations: 2; Packaging: Tape & Reel; Power Dissipation: 100mW; Power Rating: 100mW; REACH SVHC: Yes; Schedule B: 8533210045, 8533210045|8533210045, 8533210045|8533210045|8533210045, 8533210045|8533210045|8533210045|8533210045; Termination: SMD/SMT; Width: 800µm; Working Voltage: 75V; ComponentLink1URL: https://datasheet.octopart.com:443/RC0603FR-075K1L-Yageo-datasheet-175887523.pdf?src-supplier=IHS; ComponentLink1Description: https://datasheet.octopart.com:443/RC0603FR-075K1L-Yageo-datasheet-175887523.pdf?src-supplier=IHS; ComponentLink2URL: https://datasheet.octopart.com:443/RC0603FR-075K1L-Yageo-datasheet-103092701.pdf?src-supplier=Upverter; ComponentLink2Description: https://datasheet.octopart.com:443/RC0603FR-075K1L-Yageo-datasheet-103092701.pdf?src-supplier=Upverter; ComponentLink3URL: https://datasheet.octopart.com:443/RC0603FR-075K1L-Yageo-datasheet-8328172.pdf?src-supplier=Farnell; ComponentLink3Description: https://datasheet.octopart.com:443/RC0603FR-075K1L-Yageo-datasheet-8328172.pdf?src-supplier=Farnell; ComponentLink4URL: https://datasheet.octopart.com:443/RC0603FR-075K1L-Yageo-datasheet-62067350.pdf?src-supplier=Farnell; ComponentLink4Description: https://datasheet.octopart.com:443/RC0603FR-075K1L-Yageo-datasheet-62067350.pdf?src-supplier=Farnell; ComponentLink5URL: https://datasheet.octopart.com:443/RC0603FR-075K1L-Yageo-datasheet-34211833.pdf?src-supplier=element14+APAC; ComponentLink5Description: https://datasheet.octopart.com:443/RC0603FR-075K1L-Yageo-datasheet-34211833.pdf?src-supplier=element14+APAC; ComponentLink6URL: https://datasheet.octopart.com:443/RC0603FR-075K1L-Yageo-datasheet-164759695.pdf?src-supplier=Future+Electronics; ComponentLink6Description: https://datasheet.octopart.com:443/RC0603FR-075K1L-Yageo-datasheet-164759695.pdf?src-supplier=Future+Electronics; ComponentLink7URL: https://datasheet.octopart.com:443/RC0603FR-075K1L-Yageo-datasheet-137700087.pdf?src-supplier=Future+Electronics; ComponentLink7Description: https://datasheet.octopart.com:443/RC0603FR-075K1L-Yageo-datasheet-137700087.pdf?src-supplier=Future+Electronics; ComponentLink8URL: https://datasheet.octopart.com:443/RC0603FR-075K1L-Yageo-datasheet-15599030.pdf?src-supplier=Future+Electronics; ComponentLink8Description: https://datasheet.octopart.com:443/RC0603FR-075K1L-Yageo-datasheet-15599030.pdf?src-supplier=Future+Electronics; ComponentLink9URL: https://datasheet.octopart.com:443/RC0603FR-075K1L-Yageo-datasheet-12596169.pdf?src-supplier=Future+Electronics; ComponentLink9Description: https://datasheet.octopart.com:443/RC0603FR-075K1L-Yageo-datasheet-12596169.pdf?src-supplier=Future+Electronics; ComponentLink10URL: https://datasheet.octopart.com:443/RC0603FR-075K1L-Yageo-datasheet-503470.pdf?src-supplier=Future+Electronics; ComponentLink10Description: https://datasheet.octopart.com:443/RC0603FR-075K1L-Yageo-datasheet-503470.pdf?src-supplier=Future+Electronics; ComponentLink11URL: https://datasheet.octopart.com:443/RC0603FR-075K1L-Yageo-datasheet-148775077.pdf?src-supplier=TME; ComponentLink11Description: https://datasheet.octopart.com:443/RC0603FR-075K1L-Yageo-datasheet-148775077.pdf?src-supplier=TME; ComponentLink12URL: https://datasheet.octopart.com:443/RC0603FR-075K1L-Yageo-datasheet-79472498.pdf?src-supplier=Megastar; ComponentLink12Description: https://datasheet.octopart.com:443/RC0603FR-075K1L-Yageo-datasheet-79472498.pdf?src-supplier=Megastar; ComponentLink13URL: https://datasheet.octopart.com/RC0603FR-075K1L-Yageo-datasheet-73766026.pdf; ComponentLink13Description: https://datasheet.octopart.com/RC0603FR-075K1L-Yageo-datasheet-73766026.pdf; ComponentLink14URL: https://datasheet.octopart.com:443/RC0603FR-075K1L-Yageo-datasheet-118562.pdf?src-supplier=DigiKey; ComponentLink14Description: https://datasheet.octopart.com:443/RC0603FR-075K1L-Yageo-datasheet-118562.pdf?src-supplier=DigiKey; ComponentLink15URL: http://sigma.octopart.com:80/rohs_statement/Yageo-company-2.pdf?src-supplier=Compliance+Statements; ComponentLink15Description: http://sigma.octopart.com:80/rohs_statement/Yageo-company-2.pdf?src-supplier=Compliance+Statements; ComponentLink16URL: http://sigma.octopart.com:80/conflict_mineral_statement/Yageo-company-3.pdf?src-supplier=Compliance+Statements; ComponentLink16Description: http://sigma.octopart.com:80/conflict_mineral_statement/Yageo-company-3.pdf?src-supplier=Compliance+Statements
footprint PCBComponent_1 - duplicate
pins: 1, 2

## Resistor_4
designator R?, comment 5k1
Manufacturer: Yageo; Manufacturer Part Number: RC0402FR-07267KL; Tolerance: 1%; Additional Feature: LASER TRIMMABLE; Power: 62.5mW; Rated Temperature: 70°C; Value: 1kR; Working Voltage: 50V; Temperature Coefficient (ppm/Cel): 100; Package Height: 0.35mm; Package Length: 1mm; Package Width: 0.5mm; Supplier: Digikey; Supplier Part Number: YAG3079CT-ND; RoHS: Yes; Category: Chip SMD Resistors; Stock: 55854; Pricing: 1=0.1, 10=0.007, 100=0.0051, 1000=0.00306 (USD); Mounting Technology: Surface Mount; Pins: 2; Package Shape: Rectangular; Case/Package: 0402; Terminal Finish: Nickel; Min Operating Temperature: -55°C; Max Operating Temperature: 155°C; JESD-609 Code: e3; Resistor Type: FIXED RESISTOR; Construction: Chip; Packaging: Tape and Reel; Technology: METAL GLAZE/THICK FILM; Termination: Wraparound; Reach SVHC Compliant: Yes; RoHS Compliant: Yes; ComponentLink1URL: https://datasheet.ciiva.com:443/pdfs/VipMasterIC/IC/YAGO/YAGO-S-A0008145938/YAGO-S-A0008145938-1.pdf?src-supplier=IHS+Markit; ComponentLink1Description: https://datasheet.ciiva.com:443/pdfs/VipMasterIC/IC/YAGO/YAGO-S-A0008145938/YAGO-S-A0008145938-1.pdf?src-supplier=IHS+Markit; ComponentLink2URL: https://datasheet.ciiva.com/12577/pyu-rc0402-51-rohs-l-6-r-12577167.pdf?src-supplier=Mouser; ComponentLink2Description: https://datasheet.ciiva.com/12577/pyu-rc0402-51-rohs-l-6-r-12577167.pdf?src-supplier=Mouser; ComponentLink3URL: https://datasheet.ciiva.com/8886/pyu-rc0402-51-rohs-l-6-8886495.pdf?src-supplier=Avnet; ComponentLink3Description: https://datasheet.ciiva.com/8886/pyu-rc0402-51-rohs-l-6-8886495.pdf?src-supplier=Avnet
footprint PCBComponent_1 - duplicate
pins: 1, 2

## XR2206CP-F
designator U?, comment XR2206
footprint PCBComponent_1 - duplicate2
pins: 1 AMSI, 2 STO, 3 MO, 4 VCC, 5 TC1, 6 TC2, 7 TR1, 8 TR2, 9 FSK1, 10 BIAS, 11 SYNCO, 12 GND, 13 WAVEA1, 14 WAVEA2, 15 SYMA1, 16 SYMA2